# EAGLE library part 416131160810 (library Eagle_Wuerth_Elektronik_Switch)
WS-HP-1.27 mm small compact SMD Dip Switch with top tape,20 pins,10 poles
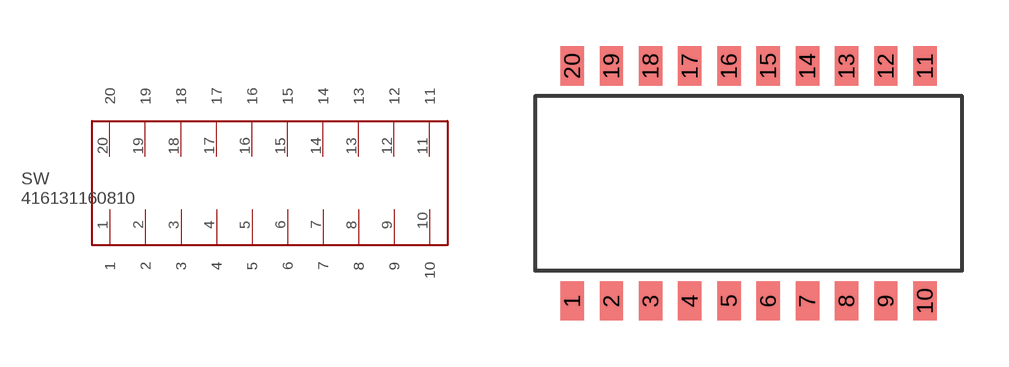
[diagram p28: symbol with the pads of 416131160810; footprint 416131160810]

Designator prefix SW

## 416131160810  [416131160810]
1  1
2  2
3  3
4  4
5  5
6  6
7  7
8  8
9  9
10  10
11  11
12  12
13  13
14  14
15  15
16  16
17  17
18  18
19  19
20  20

## Footprint 416131160810 (pad centres in mm)
WS-HP-1.27 mm small compact SMD Dip Switch with top tape,20 pins,10 poles
smd 0.76 x 1.27: 1 0,-3.81; 2 1.27,-3.81; 3 2.54,-3.81; 4 3.81,-3.81; 5 5.08,-3.81; 6 6.35,-3.81; 7 7.62,-3.81; 8 8.89,-3.81; 9 10.16,-3.81; 10 11.43,-3.81; 11 11.43,3.81; 12 10.16,3.81; 13 8.89,3.81; 14 7.62,3.81; 15 6.35,3.81; 16 5.08,3.81; 17 3.81,3.81; 18 2.54,3.81; 19 1.27,3.81; 20 0,3.81